# Altium schematic symbol library SchLib_ADH.SchLib: 241 symbols (part 3 of 9)
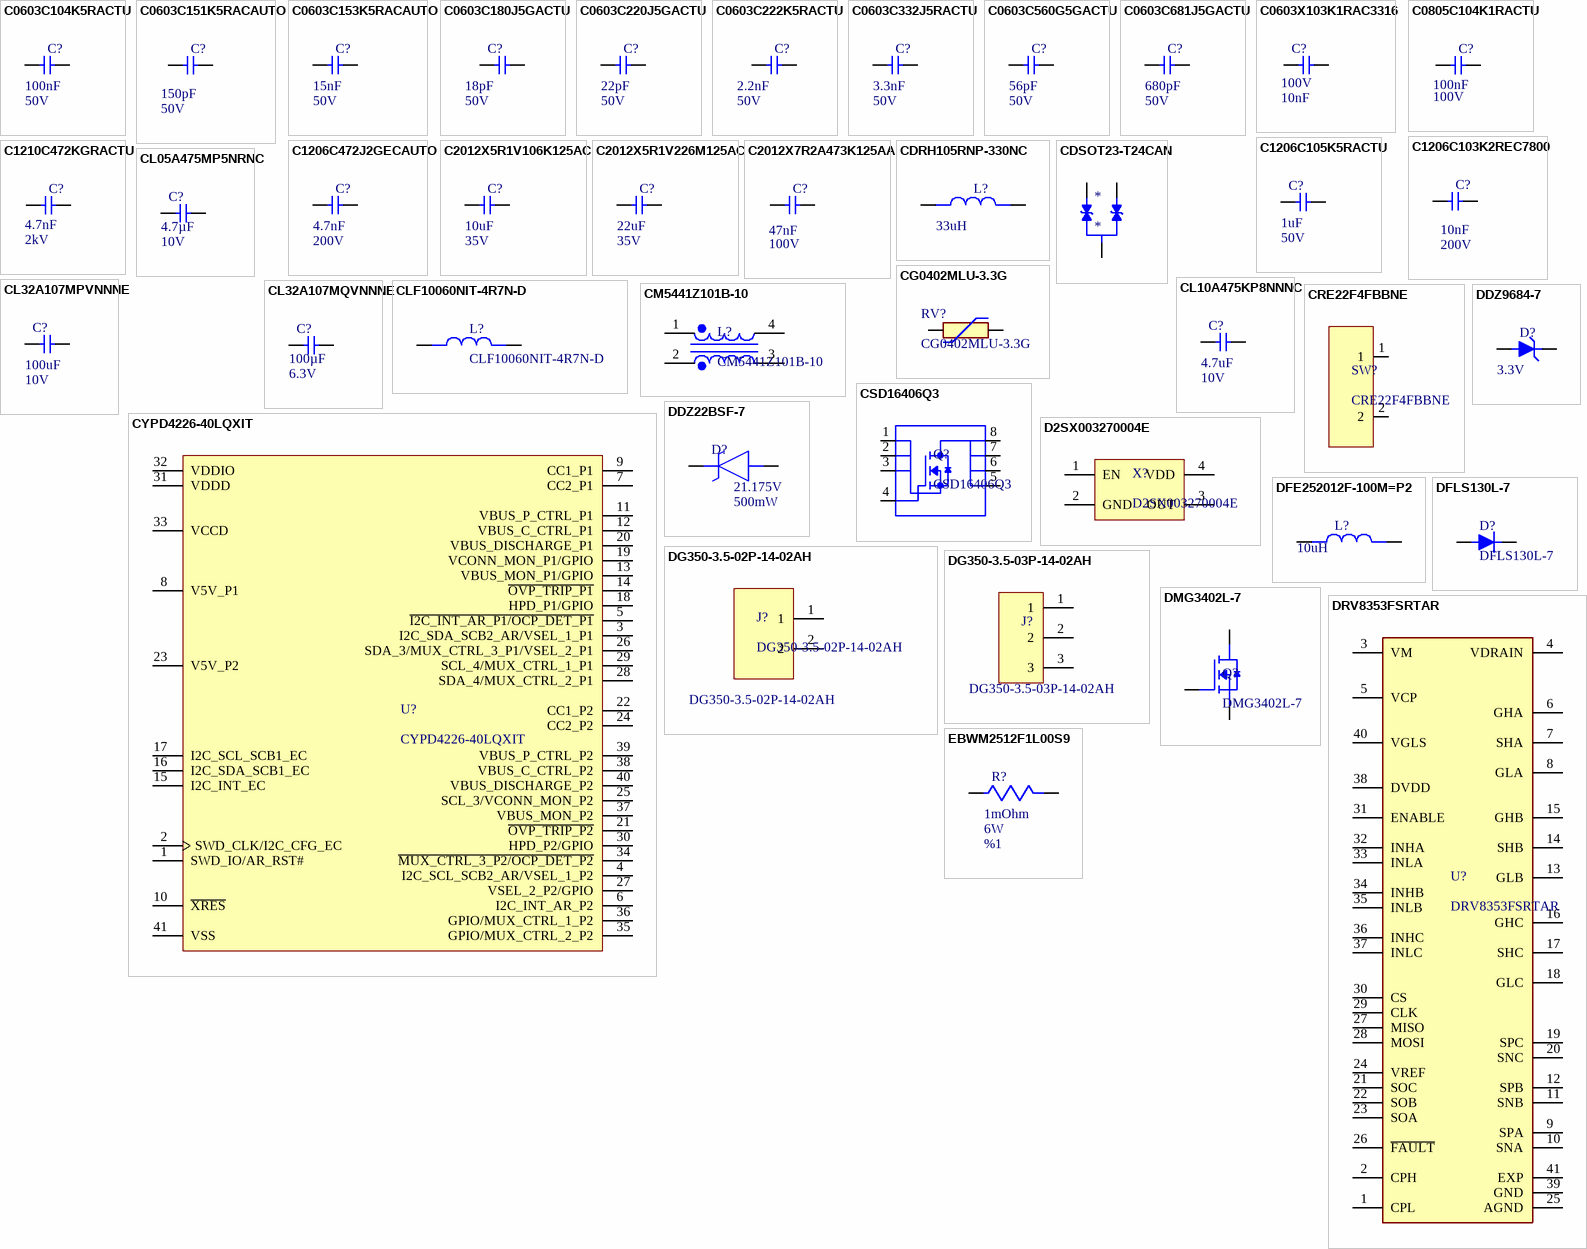
[diagram p9: symbols C0603C104K5RACTU to EBWM2512F1L00S9]

## C1210C472KGRACTU
designator C?  value 4.7nF  Rated DC Voltage (URdc): 2kV  (hidden comment: C1210C472KGRACTU)
Ceramic Capacitor, Multilayer, Ceramic, 2000V, 10% +Tol, 10% -Tol, X7R, 15% TC, 0.0047uF, Surface Mount, 1210; Manufacturer: KEMET; Multilayer: Yes; Reference Standard: AEC-Q200; Supplier 1: Digikey; Manufacturer Part Number: C1210C472KGRACTU; RoHS: Yes; Category: Ceramic Capacitors; Stock 1: 25448; Pricing 1: 1=1.07, 10=0.801, 50=0.7306, 100=0.5985, 500=0.47766, 1000=0.42147 (USD); Mounting Technology: Surface Mount; Pins: 2; Dielectric Material: Ceramic; Package Shape: Rectangular; Case/Package: 1210; Terminal Finish: Nickel; Min Operating Temperature: -55°C; Max Operating Temperature: 125°C; JESD-609 Code: e3; Capacitor Type: Ceramic; Tolerance  (fill in as +-): 10%; Package Style: SMTMeter; Packaging: Tape and Reel; Tolerance (fill in as +-): 10%; Temperature Characteristics Code: X7R; Termination: Wraparound; Length: 3.2mm; Width: 2.5mm; Height: 2.1mm; Reach SVHC Compliant: Yes; RoHS Compliant: Yes; ComponentLink1URL: https://datasheet.ciiva.com:443/pdfs/VipMasterIC/IC/KEME/KEME-S-A0005723686/KEME-S-A0005723686-1.pdf?src-supplier=IHS+Markit; ComponentLink1Description: https://datasheet.ciiva.com:443/pdfs/VipMasterIC/IC/KEME/KEME-S-A0005723686/KEME-S-A0005723686-1.pdf?src-supplier=IHS+Markit; ComponentLink2URL: http://www.farnell.com/datasheets/2746122.pdf?src-supplier=Farnell; ComponentLink2Description: http://www.farnell.com/datasheets/2746122.pdf?src-supplier=Farnell; ComponentLink3URL: http://www.mouser.com/ds/2/212/KEM_C1010_X7R_HV_SMD-1102742.pdf?src-supplier=Mouser; ComponentLink3Description: http://www.mouser.com/ds/2/212/KEM_C1010_X7R_HV_SMD-1102742.pdf?src-supplier=Mouser; ComponentLink4URL: https://datasheet.octopart.com/C1210C472KGRACTU-Kemet-datasheet-65933444.pdf?src-supplier=Element14; ComponentLink4Description: https://datasheet.octopart.com/C1210C472KGRACTU-Kemet-datasheet-65933444.pdf?src-supplier=Element14; ComponentLink5URL: https://api.kemet.com/component-edge/download/datasheet/C1210C472KGRACTU.pdf?src-supplier=Digikey; ComponentLink5Description: https://api.kemet.com/component-edge/download/datasheet/C1210C472KGRACTU.pdf?src-supplier=Digikey; ComponentLink6URL: http://www.farnell.com/datasheets/2746122.pdf?src-supplier=Newark; ComponentLink6Description: http://www.farnell.com/datasheets/2746122.pdf?src-supplier=Newark; ComponentLink7URL: https://datasheet.octopart.com/C1210C472KGRACTU-KEMET-datasheet-103257388.pdf?src-supplier=Newark; ComponentLink7Description: https://datasheet.octopart.com/C1210C472KGRACTU-KEMET-datasheet-103257388.pdf?src-supplier=Newark; ComponentLink8URL: http://capacitoredge.kemet.com/capedge2/DataSheet?pn=C1210C472KGRACTU&src-supplier=Avnet; ComponentLink8Description: http://capacitoredge.kemet.com/capedge2/DataSheet?pn=C1210C472KGRACTU&src-supplier=Avnet; ComponentLink9URL: http://components.arrow.com/part/dataview/48187685S8617565N7429?src-supplier=Arrow+Electronics; ComponentLink9Description: http://components.arrow.com/part/dataview/48187685S8617565N7429?src-supplier=Arrow+Electronics; ComponentLink10URL: https://datasheet.octopart.com/C1210C472KGRACTU-KEMET-datasheet-68331754.pdf?src-supplier=TME; ComponentLink10Description: https://datasheet.octopart.com/C1210C472KGRACTU-KEMET-datasheet-68331754.pdf?src-supplier=TME; Supplier Part Number 1: 399-C1210C472KGRAC7800CT-ND
footprint CAPC3225X270N
pins: 1, 2

## C2012X5R1V106K125AC
designator C?  value 10uF  Voltage Rating: 35V  (hidden comment: C2012X5R1V106K125AC)
Cap Ceramic 10uF 35V X5R 10% SMD 0805 85°C Blister Plastic T/R; Manufacturer: TDK; Supplier: Digi-Key; Supplier Part Number: 445-14418-1-ND; Manufacturer Part Number: C2012X5R1V106K125AC; RoHS: Yes; Category: Ceramic Capacitors; Stock: 387097; Pricing: 1=0,63, 10=0,42, 50=0,3342, 100=0,276, 500=0,2156, 1000=0,18326 (USD); Mounting Technology: Surface Mount; Case/Package: 0805; Case Code (Metric): 2012; Case Code (Imperial): 0805; Weight: 0.000194oz; Dielectric Material: Ceramic; Min Operating Temperature: -55°C; Max Operating Temperature: 85°C; Package Quantity: 2000; Packaging: Tape and Reel; Tolerance: 10%; Dielectric: X5R; Termination: SMD/SMT; Voltage Rating (DC): 35V; Series: C; Length: 2mm; Width: 1.25mm; Height: 1.25mm; Reach SVHC Compliant: No; Lead Free: Lead Free; RoHS Compliant: Yes; ComponentLink1URL: https://datasheet.ciiva.com/14886/tdkmlcccaprange-14886603.pdf?src-supplier=Digi-Key; ComponentLink1Description: https://datasheet.ciiva.com/14886/tdkmlcccaprange-14886603.pdf?src-supplier=Digi-Key; ComponentLink2URL: https://datasheet.ciiva.com/14886/tdkmlcccaprange-14886602.pdf?src-supplier=Digi-Key; ComponentLink2Description: https://datasheet.ciiva.com/14886/tdkmlcccaprange-14886602.pdf?src-supplier=Digi-Key; ComponentLink3URL: https://datasheet.ciiva.com/14886/tdkmlcccaprange-14886604.pdf?src-supplier=Digi-Key; ComponentLink3Description: https://datasheet.ciiva.com/14886/tdkmlcccaprange-14886604.pdf?src-supplier=Digi-Key
footprint CAPC2012X145N
pins: 1, 2 12

## C2012X5R1V226M125AC
designator C?  value 22uF  Voltage Rating: 35V  (hidden comment: C2012X5R1V226M125AC)
Multilayer Ceramic Capacitor, 22 uF, 35 V, ± 20%, X5R, 0805 [2012 Metric]; Manufacturer: TDK; Material: 4241ConductorMaterial; Supplier: Digikey; Supplier Part Number: 445-14428-1-ND; Manufacturer Part Number: C2012X5R1V226M125AC; RoHS: Yes; Category: Ceramic Capacitors; Stock: 157197; Pricing: 1=0,6, 10=0,402, 50=0,3198, 100=0,2641, 500=0,2063, 1000=0,17536 (USD); Mounting Technology: Surface Mount; Case/Package: 0805; Case Code (Metric): 2012; Case Code (Imperial): 0805; Weight: 0.000194oz; Dielectric Material: Ceramic; Min Operating Temperature: -55°C; Max Operating Temperature: 85°C; Package Quantity: 1; Packaging: Tape and Reel; Tolerance: 20%; Dielectric: X5R; Termination: SMD/SMT; Voltage Rating (DC): 35V; Series: C; Length: 0.079inch; Width: 0.049inch; Height: 1.25mm; Thickness: 0.057inch; Reach SVHC Compliant: No; Lead Free: Lead Free; RoHS Compliant: Yes; ComponentLink1URL: https://datasheet.ciiva.com/14893/tdkmlcccaprange-14893110.pdf?src-supplier=Digikey; ComponentLink1Description: https://datasheet.ciiva.com/14893/tdkmlcccaprange-14893110.pdf?src-supplier=Digikey; ComponentLink2URL: https://datasheet.ciiva.com/14893/tdkmlcccaprange-14893109.pdf?src-supplier=Digikey; ComponentLink2Description: https://datasheet.ciiva.com/14893/tdkmlcccaprange-14893109.pdf?src-supplier=Digikey; ComponentLink3URL: https://datasheet.ciiva.com/14893/tdkmlcccaprange-14893111.pdf?src-supplier=Digikey; ComponentLink3Description: https://datasheet.ciiva.com/14893/tdkmlcccaprange-14893111.pdf?src-supplier=Digikey
footprint CAPC2012X145N
pins: 1, 2 12

## C2012X7R2A473K125AA
designator C?  value 47nF  Voltage Rating: 100V  (hidden comment: C2012X7R2A473K125AA)
Cap Ceramic 0.047uF 100V X7R 10% Pad SMD 0805 125°C T/R; Manufacturer: TDK; Material: 4241ConductorMaterial; Supplier: Digikey; Supplier Part Number: 445-2276-1-ND; Manufacturer Part Number: C2012X7R2A473K125AA; RoHS: Yes; Category: Ceramic Capacitors; Stock: 30590; Pricing: 1=0,17, 10=0,11, 50=0,0696, 100=0,0556, 500=0,04016, 1000=0,03554 (USD); Mounting Technology: Surface Mount; Case/Package: 0805; Pins: 2; Case Code (Metric): 2012; Case Code (Imperial): 0805; Weight: 0.000194oz; Min Operating Temperature: -55°C; Max Operating Temperature: 125°C; Packaging: Tape and Reel; Tolerance: 10%; Package Quantity: 2000; Voltage Rating (DC): 100V; Dielectric: X7R; Termination: SMD/SMT; Series: C; Length: 2mm; Width: 1.25mm; Height: 1.25mm; Depth: 1.25mm; Reach SVHC Compliant: No; Lead Free: Lead Free; RoHS Compliant: Yes; ComponentLink1URL: https://datasheet.ciiva.com/24219/c2012x7r2a473k125aa-265093-24219746.pdf?src-supplier=Mouser; ComponentLink1Description: https://datasheet.ciiva.com/24219/c2012x7r2a473k125aa-265093-24219746.pdf?src-supplier=Mouser; ComponentLink2URL: https://datasheet.ciiva.com/28602/1484596-28602268.pdf?src-supplier=Element14; ComponentLink2Description: https://datasheet.ciiva.com/28602/1484596-28602268.pdf?src-supplier=Element14
footprint CAPC2012X145N
pins: 1, 2 12

## CDRH105RNP-330NC
designator L?  value 33uH  (hidden comment: CDRH105RNP-330NC)
Ind Power Shielded Wirewound 33uH 30% 100KHz Ferrite 2.5A; Manufacturer: Sumida; Supplier: Digikey; Supplier Part Number: 308-1925-1-ND; Manufacturer Part Number: CDRH105RNP-330NC; RoHS: Yes; Category: Fixed Inductors; Stock: 10016; Pricing: 1=1,41, 10=1,194, 25=1,0852, 50=1,0202, 100=0,8466, 250=0,78144 (USD); ComponentLink1URL: http://www.mouser.com/ds/2/390/CDRH105R-465909.pdf?src-supplier=Mouser; ComponentLink1Description: http://www.mouser.com/ds/2/390/CDRH105R-465909.pdf?src-supplier=Mouser; ComponentLink2URL: http://products.sumida.com/products/pdf/CDRH105R.pdf?src-supplier=Digikey; ComponentLink2Description: http://products.sumida.com/products/pdf/CDRH105R.pdf?src-supplier=Digikey; ComponentLink3URL: http://www.sumida.com/products/pdf/CDRH105R.pdf?src-supplier=Future+Electronics; ComponentLink3Description: http://www.sumida.com/products/pdf/CDRH105R.pdf?src-supplier=Future+Electronics; ComponentLink4URL: http://www.sumida.com/products/pdf/CDRH105R.pdf?src-supplier=Avnet; ComponentLink4Description: http://www.sumida.com/products/pdf/CDRH105R.pdf?src-supplier=Avnet; ComponentLink5URL: https://datasheet.octopart.com/CDRH105RNP-330NC-Sumida-datasheet-32609297.pdf?src-supplier=LKR; ComponentLink5Description: https://datasheet.octopart.com/CDRH105RNP-330NC-Sumida-datasheet-32609297.pdf?src-supplier=LKR
footprint CDRH105RNP-330NC
pins: 1, 2

## CDSOT23-T24CAN
designator *
A 24V, CANbus protection, SOT-23 package, Diode Array | Bourns CDSOT23-T24CAN; Supplier: Digi-Key; Supplier Part Number: CDSOT23-T24CANCT-ND; Manufacturer: Bourns; Manufacturer Part Number: CDSOT23-T24CAN; RoHS: Yes; Category: TVS Diodes; Stock: 221837; Pricing: 1=0,36, 10=0,282, 100=0,1691, 500=0,15656, 1000=0,10645 (USD); ComponentLink1URL: http://www.alliedelec.com/images/products/datasheets/bm/BOURNS/70672808.pdf?src-supplier=Allied+Electronics; ComponentLink1Description: http://www.alliedelec.com/images/products/datasheets/bm/BOURNS/70672808.pdf?src-supplier=Allied+Electronics; ComponentLink2URL: http://www.farnell.com/datasheets/2034827.pdf?src-supplier=Farnell; ComponentLink2Description: http://www.farnell.com/datasheets/2034827.pdf?src-supplier=Farnell; ComponentLink3URL: http://www.mouser.com/ds/2/54/dsot23-t24can-769560.pdf?src-supplier=Mouser; ComponentLink3Description: http://www.mouser.com/ds/2/54/dsot23-t24can-769560.pdf?src-supplier=Mouser; ComponentLink4URL: http://datasheet.octopart.com/CDSOT23-T24CAN-Bourns-datasheet-57226985.pdf?src-supplier=Newark; ComponentLink4Description: http://datasheet.octopart.com/CDSOT23-T24CAN-Bourns-datasheet-57226985.pdf?src-supplier=Newark; ComponentLink5URL: https://datasheet.octopart.com/CDSOT23-T24CAN-Bourns-datasheet-57226985.pdf?src-supplier=Element14; ComponentLink5Description: https://datasheet.octopart.com/CDSOT23-T24CAN-Bourns-datasheet-57226985.pdf?src-supplier=Element14; ComponentLink6URL: http://www.farnell.com/datasheets/2034827.pdf?src-supplier=Element14; ComponentLink6Description: http://www.farnell.com/datasheets/2034827.pdf?src-supplier=Element14; ComponentLink7URL: http://www.farnell.com/datasheets/2034827.pdf?src-supplier=Newark; ComponentLink7Description: http://www.farnell.com/datasheets/2034827.pdf?src-supplier=Newark; ComponentLink8URL: http://datasheet.octopart.com/CDSOT23-T24CAN-Bourns-datasheet-57226985.pdf?src-supplier=Onlinecomponents.com; ComponentLink8Description: http://datasheet.octopart.com/CDSOT23-T24CAN-Bourns-datasheet-57226985.pdf?src-supplier=Onlinecomponents.com; ComponentLink9URL: https://www.bourns.com/docs/Product-Datasheets/CDSOT23-T24CAN.pdf?src-supplier=Digi-Key; ComponentLink9Description: https://www.bourns.com/docs/Product-Datasheets/CDSOT23-T24CAN.pdf?src-supplier=Digi-Key; ComponentLink10URL: http://www.bourns.com/docs/Product-Datasheets/cdsot23-t24can.pdf?src-supplier=Avnet; ComponentLink10Description: http://www.bourns.com/docs/Product-Datasheets/cdsot23-t24can.pdf?src-supplier=Avnet; ComponentLink11URL: https://datasheet.octopart.com/CDSOT23-T24CAN-Bourns-datasheet-154729645.pdf?src-supplier=Electro+Sonic; ComponentLink11Description: https://datasheet.octopart.com/CDSOT23-T24CAN-Bourns-datasheet-154729645.pdf?src-supplier=Electro+Sonic
footprint CDSOT23
pins: 1, 2, 3

## CG0402MLU-3.3G
designator RV?
Varistor 1 Circuit Surface Mount, MLCV 0402 (1005 Metric); Manufacturer_Name: Bourns; Datasheet Link: https://www.bourns.com/docs/Product-Datasheets/MLU.pdf; Height: 0.41mm; Manufacturer_Part_Number: CG0402MLU-3.3G; Mouser Part Number: 652-CG0402MLU-3.3G; Mouser Price/Stock: https://www.mouser.co.uk/ProductDetail/Bourns/CG0402MLU-3.3G?qs=m8myXnDJXpWVM8EQWErxtQ%3D%3D; Arrow Part Number: CG0402MLU-3.3G; Arrow Price/Stock: https://www.arrow.com/en/products/cg0402mlu-3.3g/bourns?utm_currency=USD&region=nac
footprint VARC1005X41N
pins: 1, 2

## CL05A475MP5NRNC
designator C?  value 4.7µF  Voltage Rating: 10V  (hidden comment: CL05A475MP5NRNC)
Ceramic Capacitor, Multilayer, Ceramic, 10V, 20% +Tol, 20% -Tol, X5R, +-15% TC, 4.7uF, Surface Mount, 0402 inch; Manufacturer: Samsung Electro-Mechanics; Supplier: Avnet; Supplier Part Number: CL05A475MP5NRNC; Manufacturer Part Number: CL05A475MP5NRNC; RoHS: Compliant; Category: Ceramic Capacitors; Stock: 40000; Pricing: 10000=0,00671, 20000=0,00663, 40000=0,0066, 80000=0,00656, 160000=0,00653 (USD); Case/Package: 0402; Case Code (Imperial): 0402; Case Code (Metric): 1005; China RoHS: Compliant; Dielectric: X5R; Dielectric Material: Ceramic; Height: 500µm; Lead Free: Lead Free; Length: 1mm; Lifecycle Status: Production; Material: Ceramic; Max Operating Temperature: 85°C; Min Operating Temperature: -55°C; Mounting Technology: Surface Mount; Number of Terminals: 2; REACH SVHC: Yes; Schedule B: 8532240020, 8532240020|8532240020|8532240020|8532240020|8532240020|8532240020|8532240020|8532240020|8532240020|8532240020|8532240020|8532240020|8532240020|8532240020|8532240020|8532240020|8532240020|8532240020|8532240020|8532240020|8532240020|8532240020, 8532240020|8532240020|8532240020|8532240020|8532240020|8532240020|8532240020|8532240020|8532240020|8532240020|8532240020|8532240020|8532240020|8532240020|8532240020|8532240020|8532240020|8532240020|8532240020|8532240020|8532240020|8532240020|8532240020, 8532240020|8532240020|8532240020|8532240020|8532240020|8532240020|8532240020|8532240020|8532240020|8532240020|8532240020|8532240020|8532240020|8532240020|8532240020|8532240020|8532240020|8532240020|8532240020|8532240020|8532240020|8532240020|8532240020|85; Thickness: 558.8µm; Tolerance: 20%; Voltage Rating (DC): 10V; Width: 500µm; ComponentLink1URL: https://datasheet.octopart.com:443/CL05A475MP5NRNC-Samsung-Electro-Mechanics-datasheet-181551186.pdf?src-supplier=Newark; ComponentLink1Description: https://datasheet.octopart.com:443/CL05A475MP5NRNC-Samsung-Electro-Mechanics-datasheet-181551186.pdf?src-supplier=Newark; ComponentLink2URL: https://datasheet.octopart.com:443/CL05A475MP5NRNC-Samsung-Electro-Mechanics-datasheet-136482298.pdf?src-supplier=Newark; ComponentLink2Description: https://datasheet.octopart.com:443/CL05A475MP5NRNC-Samsung-Electro-Mechanics-datasheet-136482298.pdf?src-supplier=Newark; ComponentLink3URL: https://datasheet.octopart.com:443/CL05A475MP5NRNC-Samsung-Electro-Mechanics-datasheet-136031736.pdf?src-supplier=Future+Electronics; ComponentLink3Description: https://datasheet.octopart.com:443/CL05A475MP5NRNC-Samsung-Electro-Mechanics-datasheet-136031736.pdf?src-supplier=Future+Electronics; ComponentLink4URL: https://datasheet.octopart.com:443/CL05A475MP5NRNC-Samsung-Electro-Mechanics-datasheet-110226226.pdf?src-supplier=Future+Electronics; ComponentLink4Description: https://datasheet.octopart.com:443/CL05A475MP5NRNC-Samsung-Electro-Mechanics-datasheet-110226226.pdf?src-supplier=Future+Electronics; ComponentLink5URL: https://datasheet.octopart.com:443/CL05A475MP5NRNC-Samsung-Electro-Mechanics-datasheet-87580058.pdf?src-supplier=Future+Electronics; ComponentLink5Description: https://datasheet.octopart.com:443/CL05A475MP5NRNC-Samsung-Electro-Mechanics-datasheet-87580058.pdf?src-supplier=Future+Electronics; ComponentLink6URL: https://datasheet.octopart.com:443/CL05A475MP5NRNC-Samsung-Electro-Mechanics-datasheet-81461611.pdf?src-supplier=Future+Electronics; ComponentLink6Description: https://datasheet.octopart.com:443/CL05A475MP5NRNC-Samsung-Electro-Mechanics-datasheet-81461611.pdf?src-supplier=Future+Electronics; ComponentLink7URL: https://datasheet.octopart.com:443/CL05A475MP5NRNC-Samsung-datasheet-48647200.pdf?src-supplier=Future+Electronics; ComponentLink7Description: https://datasheet.octopart.com:443/CL05A475MP5NRNC-Samsung-datasheet-48647200.pdf?src-supplier=Future+Electronics; ComponentLink8URL: https://datasheet.octopart.com:443/CL05A475MP5NRNC-Samsung-datasheet-34153549.pdf?src-supplier=Future+Electronics; ComponentLink8Description: https://datasheet.octopart.com:443/CL05A475MP5NRNC-Samsung-datasheet-34153549.pdf?src-supplier=Future+Electronics; ComponentLink9URL: https://datasheet.octopart.com:443/CL05A475MP5NRNC-Samsung-datasheet-26589015.pdf?src-supplier=Future+Electronics; ComponentLink9Description: https://datasheet.octopart.com:443/CL05A475MP5NRNC-Samsung-datasheet-26589015.pdf?src-supplier=Future+Electronics; ComponentLink10URL: https://datasheet.octopart.com:443/CL05A475MP5NRNC-Samsung-datasheet-8324245.pdf?src-supplier=Future+Electronics; ComponentLink10Description: https://datasheet.octopart.com:443/CL05A475MP5NRNC-Samsung-datasheet-8324245.pdf?src-supplier=Future+Electronics; ComponentLink11URL: https://datasheet.octopart.com:443/CL05A475MP5NRNC-Samsung-Electro-Mechanics-datasheet-149136695.pdf?src-supplier=Future+Electronics; ComponentLink11Description: https://datasheet.octopart.com:443/CL05A475MP5NRNC-Samsung-Electro-Mechanics-datasheet-149136695.pdf?src-supplier=Future+Electronics; ComponentLink12URL: https://datasheet.octopart.com:443/CL05A475MP5NRNC-Samsung-datasheet-8326407.pdf?src-supplier=TME; ComponentLink12Description: https://datasheet.octopart.com:443/CL05A475MP5NRNC-Samsung-datasheet-8326407.pdf?src-supplier=TME
footprint CAPC1005X55N
pins: 1, 2 12

## CL10A475KP8NNNC
designator C?  value 4.7uF  Voltage Rating: 10V  (hidden comment: CL10A475KP8NNNC)
Multilayer Ceramic Capacitor, 4.7 uF, 10 V, ± 10%, X5R, 0603 [1608 Metric]; Manufacturer: Samsung; Material: 4241ConductorMaterial; Supplier: Digikey; Supplier Part Number: 1276-1044-1-ND; Manufacturer Part Number: CL10A475KP8NNNC; RoHS: Yes; Category: Ceramic Capacitors; Stock: 8034621; Pricing: 1=0,1, 10=0,041, 50=0,0234, 100=0,0182, 500=0,01368, 1000=0,01075 (USD); Mounting Technology: Surface Mount; Case/Package: 0603; Case Code (Metric): 1608; Case Code (Imperial): 0603; Min Operating Temperature: -55°C; Max Operating Temperature: 85°C; Tolerance: 10%; Package Quantity: 1; Packaging: Tape and Reel; Dielectric: X5R; Series: CL; Construction: Flat; Voltage Rating (DC): 10V; Length: 1.6mm; Width: 0.031inch; Height: 0.8mm; Thickness: 0.035inch; Depth: 0.8mm; Radiation Hardening: No; RoHS Compliant: Yes; ComponentLink1URL: https://datasheet.ciiva.com/25797/cl10a475kp8nnnc-25797520.pdf?src-supplier=Digikey; ComponentLink1Description: https://datasheet.ciiva.com/25797/cl10a475kp8nnnc-25797520.pdf?src-supplier=Digikey
footprint CAPC1608X94N
pins: 1, 2 12

## CL32A107MPVNNNE
designator C?  value 100uF  Voltage Rating: 10V  (hidden comment: CL32A107MPVNNNE)
Multilayer Ceramic Capacitor, 100 uF, 10 V, ± 20%, X5R, 1210 [3225 Metric]; Manufacturer: Samsung; Supplier: Digikey; Supplier Part Number: 1276-3364-1-ND; Manufacturer Part Number: CL32A107MPVNNNE; RoHS: Yes; Category: Ceramic Capacitors; Stock: 171335; Pricing: 1=1,05, 10=0,757, 50=0,6618, 100=0,5393, 500=0,44124 (USD); Mounting Technology: Surface Mount; Case/Package: 1210; Case Code (Metric): 3225; Case Code (Imperial): 1210; Material: Ceramic; Min Operating Temperature: -55°C; Max Operating Temperature: 85°C; Tolerance: 20%; Packaging: Cut Tape; Dielectric: X5R; Voltage: 10V; Voltage Rating (DC): 10V; Series: CL; Construction: Flat; Length: 3.2mm; Width: 0.098inch; Height: 2.5mm; Thickness: 0.11inch; Depth: 2.5mm; Radiation Hardening: No; Lead Free: Lead Free; RoHS Compliant: Yes; ComponentLink1URL: https://datasheet.ciiva.com/26947/getdatasheetpartid-468228-26947022.pdf?src-supplier=Verical; ComponentLink1Description: https://datasheet.ciiva.com/26947/getdatasheetpartid-468228-26947022.pdf?src-supplier=Verical
footprint CAPC3225X140N
pins: 1, 2 12

## CL32A107MQVNNNE
designator C?  value 100µF  Voltage: 6.3V  (hidden comment: CL32A107MQVNNNE)
6.3V 100uF X5R ±20% 1210 Multilayer Ceramic Capacitors MLCC - SMD/SMT ROHS; Manufacturer: Samsung Electro-Mechanics; Supplier: Avnet; Supplier Part Number: 82AC9521; Manufacturer Part Number: CL32A107MQVNNNE; RoHS: Compliant; Category: Ceramic Capacitors; Stock: 76691; Pricing: 1=0,707, 10=0,427, 25=0,371, 50=0,315, 100=0,28 (USD); Case/Package: 1210; Case Code (Imperial): 1210; Case Code (Metric): 3225; China RoHS: Compliant; Contact Plating: Tin; Depth: 2.5mm; Dielectric: X5R; Dielectric Material: Ceramic; Height: 2.8mm; Lead Free: Lead Free; Length: 3.2mm; Lifecycle Status: Production; Material: Ceramic; Max Operating Temperature: 85°C; Min Operating Temperature: -55°C; Mounting Technology: Surface Mount; Number of Terminals: 2; Radiation Hardening: No; REACH SVHC: Yes; Schedule B: 8532240020, 8532240020|8532240020|8532240020|8532240020|8532240020|8532240020|8532240020|8532240020|8532240020|8532240020|8532240020|8532240020|8532240020|8532240020|8532240020|8532240020|8532240020|8532240020|8532240020|8532240020|8532240020|8532240020|8532240020|85; Thickness: 2.794mm; Tolerance: 20%; Voltage Rating: 6.3V; Voltage Rating (DC): 6.3V; Width: 2.5mm; ComponentLink1URL: https://datasheet.octopart.com:443/CL32A107MQVNNNE-Samsung-Electro-Mechanics-datasheet-181552186.pdf?src-supplier=Farnell; ComponentLink1Description: https://datasheet.octopart.com:443/CL32A107MQVNNNE-Samsung-Electro-Mechanics-datasheet-181552186.pdf?src-supplier=Farnell; ComponentLink2URL: https://datasheet.octopart.com:443/CL32A107MQVNNNE-Samsung-Electro-Mechanics-datasheet-136031867.pdf?src-supplier=Samsung+SCT; ComponentLink2Description: https://datasheet.octopart.com:443/CL32A107MQVNNNE-Samsung-Electro-Mechanics-datasheet-136031867.pdf?src-supplier=Samsung+SCT; ComponentLink3URL: https://datasheet.octopart.com:443/CL32A107MQVNNNE-Samsung-Electro-Mechanics-datasheet-11731531.pdf?src-supplier=Future+Electronics; ComponentLink3Description: https://datasheet.octopart.com:443/CL32A107MQVNNNE-Samsung-Electro-Mechanics-datasheet-11731531.pdf?src-supplier=Future+Electronics; ComponentLink4URL: https://datasheet.octopart.com:443/CL32A107MQVNNNE-Samsung-Electro-Mechanics-datasheet-149048019.pdf?src-supplier=Future+Electronics; ComponentLink4Description: https://datasheet.octopart.com:443/CL32A107MQVNNNE-Samsung-Electro-Mechanics-datasheet-149048019.pdf?src-supplier=Future+Electronics; ComponentLink5URL: https://datasheet.octopart.com:443/CL32A107MQVNNNE-Samsung-Electro-Mechanics-datasheet-110334290.pdf?src-supplier=Future+Electronics; ComponentLink5Description: https://datasheet.octopart.com:443/CL32A107MQVNNNE-Samsung-Electro-Mechanics-datasheet-110334290.pdf?src-supplier=Future+Electronics; ComponentLink6URL: https://datasheet.octopart.com:443/CL32A107MQVNNNE-Samsung-Electro-Mechanics-datasheet-81462611.pdf?src-supplier=Future+Electronics; ComponentLink6Description: https://datasheet.octopart.com:443/CL32A107MQVNNNE-Samsung-Electro-Mechanics-datasheet-81462611.pdf?src-supplier=Future+Electronics; ComponentLink7URL: https://datasheet.octopart.com:443/CL32A107MQVNNNE-Samsung-datasheet-48757337.pdf?src-supplier=Future+Electronics; ComponentLink7Description: https://datasheet.octopart.com:443/CL32A107MQVNNNE-Samsung-datasheet-48757337.pdf?src-supplier=Future+Electronics; ComponentLink8URL: https://datasheet.octopart.com:443/CL32A107MQVNNNE-Samsung-datasheet-34175070.pdf?src-supplier=Future+Electronics; ComponentLink8Description: https://datasheet.octopart.com:443/CL32A107MQVNNNE-Samsung-datasheet-34175070.pdf?src-supplier=Future+Electronics; ComponentLink9URL: https://datasheet.octopart.com/CL32A107MQVNNNE-Samsung-Electro-Mechanics-datasheet-8324245.pdf; ComponentLink9Description: https://datasheet.octopart.com/CL32A107MQVNNNE-Samsung-Electro-Mechanics-datasheet-8324245.pdf; ComponentLink10URL: https://datasheet.octopart.com/CL32A107MQVNNNE-Samsung-Electro-Mechanics-datasheet-97040617.pdf; ComponentLink10Description: https://datasheet.octopart.com/CL32A107MQVNNNE-Samsung-Electro-Mechanics-datasheet-97040617.pdf; ComponentLink11URL: https://datasheet.octopart.com/General-Multilayer-Ceramic-Capacitors-Samsung-datasheet-family-111.pdf; ComponentLink11Description: https://datasheet.octopart.com/General-Multilayer-Ceramic-Capacitors-Samsung-datasheet-family-111.pdf; ComponentLink12URL: https://datasheet.octopart.com:443/CL32A107MQVNNNE-Samsung-datasheet-151956601.pdf?src-supplier=SOS+electronic; ComponentLink12Description: https://datasheet.octopart.com:443/CL32A107MQVNNNE-Samsung-datasheet-151956601.pdf?src-supplier=SOS+electronic; ComponentLink13URL: https://datasheet.octopart.com:443/CL32A107MQVNNNE-Samsung-datasheet-151956603.pdf?src-supplier=SOS+electronic; ComponentLink13Description: https://datasheet.octopart.com:443/CL32A107MQVNNNE-Samsung-datasheet-151956603.pdf?src-supplier=SOS+electronic; ComponentLink14URL: https://datasheet.octopart.com:443/CL32A107MQVNNNE-Samsung-datasheet-8326407.pdf?src-supplier=TME; ComponentLink14Description: https://datasheet.octopart.com:443/CL32A107MQVNNNE-Samsung-datasheet-8326407.pdf?src-supplier=TME; ComponentLink15URL: http://sigma.octopart.com:80/rohs_certificate/General-Multilayer-Ceramic-Capacitors-Samsung-family-110.pdf?src-supplier=Compliance+Statements; ComponentLink15Description: http://sigma.octopart.com:80/rohs_certificate/General-Multilayer-Ceramic-Capacitors-Samsung-family-110.pdf?src-supplier=Compliance+Statements; ComponentLink16URL: http://sigma.octopart.com:80/rohs_statement/General-Multilayer-Ceramic-Capacitors-Samsung-family-132.pdf?src-supplier=Compliance+Statements; ComponentLink16Description: http://sigma.octopart.com:80/rohs_statement/General-Multilayer-Ceramic-Capacitors-Samsung-family-132.pdf?src-supplier=Compliance+Statements; ComponentLink17URL: http://sigma.octopart.com:80/reach_statement/General-Multilayer-Ceramic-Capacitors-Samsung-family-133.pdf?src-supplier=Compliance+Statements; ComponentLink17Description: http://sigma.octopart.com:80/reach_statement/General-Multilayer-Ceramic-Capacitors-Samsung-family-133.pdf?src-supplier=Compliance+Statements
footprint CAPC3225X140N
pins: 1, 2 12

## CLF10060NIT-4R7N-D
designator L?
Inductor Power Shielded Wirewound 4.7uH 30% 100KHz Ferrite 7A 0.0143Ohm DCR Automotive T/R; Manufacturer: TDK; Supplier: Digi-Key; Supplier Part Number: 445-174714-1-ND; Manufacturer Part Number: CLF10060NIT-4R7N-D; RoHS: Yes; Category: Fixed Inductors; Stock: 4104; Pricing: 1=1,43, 10=1,323, 25=1,1024, 50=1,0364, 100=0,9261, 250=0,7938 (USD); ComponentLink1URL: https://datasheet.ciiva.com/53398/2159117-53398025.pdf?src-supplier=Element14; ComponentLink1Description: https://datasheet.ciiva.com/53398/2159117-53398025.pdf?src-supplier=Element14
footprint IND_CLF10060NIT-4R7N-D
pins: 1, 2

## CM5441Z101B-10
designator L?
Data Line Filter, 2 Function(s), 75A, 4 Pin(s); Manufacturer: Laird; DC Resistance-Max: 0.3mR; Channels: 2; Output Impedance: 100R; Supplier 1: Digikey; Manufacturer Part Number: CM5441Z101B-10; RoHS: Yes; Category: Common Mode Chokes; Stock 1: 3508; Pricing 1: 1=3.51, 10=2.932, 25=2.6768, 50=2.2944, 100=2.1033, 250=2.03956, 500=1.97582, 1000=1.84835, 2500=1.78461 (USD); Mounting Technology: Through Hole; Terminal Finish: Tin; Filter Type: DATA LINE FILTER; Current Rating: 75A; JESD-609 Code: e3; Length: 13.72mm; Width: 10.41mm; Height: 10.52mm; RoHS Compliant: Yes; Reach SVHC Compliant: Yes; ComponentLink1URL: https://datasheet.ciiva.com:443/pdfs/VipMasterIC/IC/LATE/LATE-S-A0008837650/LATE-S-A0008837650-1.pdf?src-supplier=IHS+Markit; ComponentLink1Description: https://datasheet.ciiva.com:443/pdfs/VipMasterIC/IC/LATE/LATE-S-A0008837650/LATE-S-A0008837650-1.pdf?src-supplier=IHS+Markit; ComponentLink2URL: https://datasheet.ciiva.com/8102/cm5441z101b-10-a-2-8102308.pdf?src-supplier=Avnet; ComponentLink2Description: https://datasheet.ciiva.com/8102/cm5441z101b-10-a-2-8102308.pdf?src-supplier=Avnet; ComponentLink3URL: https://datasheet.ciiva.com/23648/1685862-23648564.pdf?src-supplier=Newark; ComponentLink3Description: https://datasheet.ciiva.com/23648/1685862-23648564.pdf?src-supplier=Newark; ComponentLink4URL: https://datasheet.ciiva.com/22628/1685862-22628071.pdf?src-supplier=Element14; ComponentLink4Description: https://datasheet.ciiva.com/22628/1685862-22628071.pdf?src-supplier=Element14; Supplier Part Number 1: 240-2489-ND
footprint FIL_CM5441Z101B-10
pins: 1, 2, 3, 4

## CRE22F4FBBNE
designator SW?
Rocker Switch SPST 20A (AC) 125 V Panel Mount, Snap-In; Manufacturer: ZF; Supplier: Digi-Key; Supplier Part Number: CH840-ND; Manufacturer Part Number: CRE22F4FBBNE; RoHS: No; Category: Rocker Switches; Stock: 82,756; Pricing: 1=1,95, 10=1,741, 25=1,6464, 50=1,5678, 100=1,4968, 250=1,4338, 500=1,33926, 1000=1,27624 (USD)
footprint WURTH_61300211121
pins: 1, 2

## CSD16406Q3
designator Q?
25-V, N channel NexFET™ power MOSFET, single SON 3 mm x 3 mm, 7.4 mOhm 8-VSON-CLIP -55 to 150; Manufacturer: Texas Instruments; Rise Time: 12.9ns; Continuous Drain Current (ID): 60A; Fall Time: 4.8ns; Turn-Off Delay Time: 8.5ns; Gate to Source Voltage (Vgs): 16V; Turn-On Delay Time: 7.3ns; Rds On Max: 5.3mR; Drain to Source Voltage (Vdss): 25V; Max Power Dissipation: 2.7W; Number of Elements: 1; Polarity: N-CHANNEL; Input Capacitance: 1.1nF; Nominal Vgs: 1.7V; Supplier: Digi-Key; Supplier Part Number: 296-24251-1-ND; Manufacturer Part Number: CSD16406Q3; RoHS: Yes; Category: MOSFETs; Stock: 11456; Pricing: 1=1,1, 10=0,899, 100=0,6991, 500=0,5926, 1000=0,48274 (USD); Mounting Technology: Surface Mount; Case/Package: SON; Pins: 8; Contact Plating: Tin,Matte; Min Operating Temperature: -55°C; Max Operating Temperature: 150°C; Packaging: Tape and Reel; Package Quantity: 2500; Power Dissipation: 2.7W; Series: NexFET™; Dual Supply Voltage: 25V; Drain to Source Breakdown Voltage: 25V; Termination: SMD/SMT; Threshold Voltage: 1.7V; Element Configuration: Single; Width: 3.3mm; Thickness: 1mm; RoHS Compliant: Yes; Reach SVHC Compliant: No; ComponentLink1URL: https://datasheet.ciiva.com/4438/slps202a-128073-4438442.pdf?src-supplier=Mouser; ComponentLink1Description: https://datasheet.ciiva.com/4438/slps202a-128073-4438442.pdf?src-supplier=Mouser; ComponentLink2URL: https://datasheet.ciiva.com/1255/csd16406q3-1255292.pdf?src-supplier=Newark; ComponentLink2Description: https://datasheet.ciiva.com/1255/csd16406q3-1255292.pdf?src-supplier=Newark; ComponentLink3URL: https://datasheet.ciiva.com/14192/slps202a-14192882.pdf?src-supplier=Avnet; ComponentLink3Description: https://datasheet.ciiva.com/14192/slps202a-14192882.pdf?src-supplier=Avnet; ComponentLink4URL: https://datasheet.ciiva.com/6387/csd16406q3-6387192.pdf?src-supplier=Digi-Key; ComponentLink4Description: https://datasheet.ciiva.com/6387/csd16406q3-6387192.pdf?src-supplier=Digi-Key; ComponentLink5URL: https://datasheet.ciiva.com/5832/483980-5832635.pdf?src-supplier=Farnell; ComponentLink5Description: https://datasheet.ciiva.com/5832/483980-5832635.pdf?src-supplier=Farnell; ComponentLink6URL: https://datasheet.ciiva.com/5832/483980-5832634.pdf?src-supplier=Farnell; ComponentLink6Description: https://datasheet.ciiva.com/5832/483980-5832634.pdf?src-supplier=Farnell; ComponentLink7URL: https://datasheet.ciiva.com/6387/csd16406q3-6387195.pdf?src-supplier=Digi-Key; ComponentLink7Description: https://datasheet.ciiva.com/6387/csd16406q3-6387195.pdf?src-supplier=Digi-Key; ComponentLink8URL: https://datasheet.ciiva.com/7643/1389665-7643292.pdf?src-supplier=Element14; ComponentLink8Description: https://datasheet.ciiva.com/7643/1389665-7643292.pdf?src-supplier=Element14; ComponentLink9URL: https://datasheet.ciiva.com/6387/csd16406q3-6387198.pdf?src-supplier=Digi-Key; ComponentLink9Description: https://datasheet.ciiva.com/6387/csd16406q3-6387198.pdf?src-supplier=Digi-Key; ComponentLink10URL: https://datasheet.ciiva.com/14423/slps202a-14423477.pdf?src-supplier=Avnet; ComponentLink10Description: https://datasheet.ciiva.com/14423/slps202a-14423477.pdf?src-supplier=Avnet
footprint TRANS_CSD16406Q3
pins: 1 S_1, 2 S_2, 3 S_3, 4 G, 5 D_5, 6 D_6, 7 D_7, 8 D_8

## CYPD4226-40LQXIT
designator U?
Usb Type-C Ctrl, 1Mbps, -40 To 85Deg C Rohs Compliant: Yes; Manufacturer: Infineon; Supplier: Digikey; Supplier Part Number: 448-CYPD4226-40LQXITCT-ND; Manufacturer Part Number: CYPD4226-40LQXIT; RoHS: Yes; Stock: 8933; Pricing: 1=2,27, 10=2,041, 25=1,9296, 100=1,6725, 250=1,58672, 500=1,51, 2500=1,51 (USD)
footprint QFN50P600X600X80-41N
pins: 1 SWD_IO/AR_RST#, 2 SWD_CLK/I2C_CFG_EC, 3 I2C_SDA_SCB2_AR/VSEL_1_P1, 4 I2C_SCL_SCB2_AR/VSEL_1_P2, 5 ~{I2C_INT_AR_P1/OCP_DET_P1}, 6 I2C_INT_AR_P2, 7 CC2_P1, 8 V5V_P1, 9 CC1_P1, 10 ~{XRES}, 11 VBUS_P_CTRL_P1, 12 VBUS_C_CTRL_P1, 13 VBUS_MON_P1/GPIO, 14 ~{OVP_TRIP_P1}, 15 I2C_INT_EC, 16 I2C_SDA_SCB1_EC, 17 I2C_SCL_SCB1_EC, 18 HPD_P1/GPIO, 19 VCONN_MON_P1/GPIO, 20 VBUS_DISCHARGE_P1, 21 ~{OVP_TRIP_P2}, 22 CC1_P2, 23 V5V_P2, 24 CC2_P2, 25 SCL_3/VCONN_MON_P2, 26 SDA_3/MUX_CTRL_3_P1/VSEL_2_P1, 27 VSEL_2_P2/GPIO, 28 SDA_4/MUX_CTRL_2_P1, 29 SCL_4/MUX_CTRL_1_P1, 30 HPD_P2/GPIO, 31 VDDD, 32 VDDIO, 33 VCCD, 34 ~{MUX_CTRL_3_P2/OCP_DET_P2}, 35 GPIO/MUX_CTRL_2_P2, 36 GPIO/MUX_CTRL_1_P2, 37 VBUS_MON_P2, 38 VBUS_C_CTRL_P2, 39 VBUS_P_CTRL_P2, 40 VBUS_DISCHARGE_P2, 41 VSS

## D2SX003270004E
designator X?
Osc 2520 32.768KHZ Cmos; Manufacturer: Hosonic Electronic; Supplier: Digikey; Supplier Part Number: 3186-D2SX003270004ECT-ND; Manufacturer Part Number: D2SX003270004E; RoHS: No; Category: Oscillators; Stock: 1746; Pricing: 1=1,48, 10=1,411, 50=1,3786, 100=1,1817, 500=1,14888, 1000=0,96834 (USD)
footprint D2SX003270004E
pins: 1 EN, 2 GND, 3 OUT, 4 VDD

## DDZ22BSF-7
designator D?  Max Power Dissipation: 500mW  Zener Voltage: 21.175V  (hidden comment: DDZ22BSF-7)
Diode Zener Single 21.175V 3% 500mW 2-Pin SOD-323F T/R; Manufacturer: Diodes; Tolerance: 2.53%; Impedance: 55R; Voltage Tolerance: 2.5%; Test Current: 5mA; Max Reverse Leakage Current: 70nA; Forward Voltage: 900mV; Supplier: Digikey; Supplier Part Number: 31-DDZ22BSF-7CT-ND; Manufacturer Part Number: DDZ22BSF-7; RoHS: Yes; Category: Zener Diodes; Stock: 1884; Pricing: 1=0,2, 10=0,14, 100=0,0681, 500=0,05682, 1000=0,03948 (USD); Mounting Technology: Surface Mount; Pins: 2; Min Operating Temperature: -65°C; Max Operating Temperature: 150°C; Package Quantity: 3000; Packaging: Tape and Reel; Zener Current: 70nA; Max Reverse Current: 70nA; Power Rating: 500mW; Series: -; Length: 2.5mm; Width: 1.25mm; Height: 0.75mm; Radiation Hardening: No; Reach SVHC Compliant: Yes; RoHS Compliant: Yes; ComponentLink1URL: https://datasheet.ciiva.com/25630/0900766b8115c2de-25630724.pdf?src-supplier=Rs; ComponentLink1Description: https://datasheet.ciiva.com/25630/0900766b8115c2de-25630724.pdf?src-supplier=Rs
footprint SODFL2512X75N
pins: 1 K, 2 A

## DDZ9684-7
designator D?  Voltage Rating: 3.3V  (hidden comment: DDZ9684-7)
Zener Diode Housing type: SOD-123 Package: SMD Power dissipation: 500 mW Zener voltage: 3.3 V; Manufacturer: Diodes; Supplier: Digi-Key; Supplier Part Number: DDZ9684-7DICT-ND; Manufacturer Part Number: DDZ9684-7; RoHS: Yes; Category: Zener Diodes; Stock: 300746; Pricing: 1=0,28, 10=0,191, 100=0,0933, 500=0,07784, 1000=0,05409 (USD); ComponentLink1URL: http://www.alliedelec.com/m/d/90d7dc6fca0866ab17f3b1504398ba90.pdf?src-supplier=Allied+Electronics; ComponentLink1Description: http://www.alliedelec.com/m/d/90d7dc6fca0866ab17f3b1504398ba90.pdf?src-supplier=Allied+Electronics; ComponentLink2URL: http://www.farnell.com/datasheets/1911852.pdf?src-supplier=Farnell; ComponentLink2Description: http://www.farnell.com/datasheets/1911852.pdf?src-supplier=Farnell; ComponentLink3URL: http://www.mouser.com/ds/2/115/ds30410-30695.pdf?src-supplier=Mouser; ComponentLink3Description: http://www.mouser.com/ds/2/115/ds30410-30695.pdf?src-supplier=Mouser; ComponentLink4URL: http://uk.rs-online.com/webdocs/1325/0900766b81325352.pdf?src-supplier=Rs; ComponentLink4Description: http://uk.rs-online.com/webdocs/1325/0900766b81325352.pdf?src-supplier=Rs; ComponentLink5URL: http://www.diodes.com/_files/datasheets/ds30410.pdf?src-supplier=Future+Electronics; ComponentLink5Description: http://www.diodes.com/_files/datasheets/ds30410.pdf?src-supplier=Future+Electronics; ComponentLink6URL: http://www.farnell.com/datasheets/1911852.pdf?src-supplier=Newark; ComponentLink6Description: http://www.farnell.com/datasheets/1911852.pdf?src-supplier=Newark; ComponentLink7URL: https://datasheet.octopart.com/DDZ9684-7-Diodes-Inc.-datasheet-8877152.pdf?src-supplier=Element14; ComponentLink7Description: https://datasheet.octopart.com/DDZ9684-7-Diodes-Inc.-datasheet-8877152.pdf?src-supplier=Element14; ComponentLink8URL: http://components.arrow.com/part/dataview/41508679S7830749N2867?src-supplier=Arrow+Electronics; ComponentLink8Description: http://components.arrow.com/part/dataview/41508679S7830749N2867?src-supplier=Arrow+Electronics; ComponentLink9URL: https://www.diodes.com/assets/Datasheets/ds30410.pdf?src-supplier=Digi-Key; ComponentLink9Description: https://www.diodes.com/assets/Datasheets/ds30410.pdf?src-supplier=Digi-Key; ComponentLink10URL: http://www.diodes.com//datasheets/ds30410.pdf?src-supplier=Avnet; ComponentLink10Description: http://www.diodes.com//datasheets/ds30410.pdf?src-supplier=Avnet; ComponentLink11URL: https://datasheet.octopart.com/DDZ9684-7-Diodes-Inc.-datasheet-142661475.pdf?src-supplier=TME; ComponentLink11Description: https://datasheet.octopart.com/DDZ9684-7-Diodes-Inc.-datasheet-142661475.pdf?src-supplier=TME
footprint SOD-123
pins: 1, 2

## DFE252012F-100M=P2
designator L?  value 10uH  (hidden comment: DFE252012F-100M=P2)
Inductor Power Chip Shielded Wirewound 10uH 20% 1MHz Metal 0.95A 0.48Ohm DCR 1008 T/R; Manufacturer: Murata; Supplier: Digikey; Supplier Part Number: 490-13050-1-ND; Manufacturer Part Number: DFE252012F-100M=P2; RoHS: Yes; Category: Fixed Inductors; Stock: 21793; Pricing: 1=0,32, 10=0,261, 25=0,2412, 50=0,221, 100=0,1948, 250=0,1888, 500=0,16872, 1000=0,13658 (USD); ComponentLink1URL: http://www.farnell.com/datasheets/2616795.pdf?src-supplier=Farnell; ComponentLink1Description: http://www.farnell.com/datasheets/2616795.pdf?src-supplier=Farnell; ComponentLink2URL: http://www.murata.com/~/media/webrenewal/products/inductor/chip/tokoproducts/wirewoundmetalalloychiptype/m_dfe252012f.ashx?src-supplier=Digikey; ComponentLink2Description: http://www.murata.com/~/media/webrenewal/products/inductor/chip/tokoproducts/wirewoundmetalalloychiptype/m_dfe252012f.ashx?src-supplier=Digikey; ComponentLink3URL: https://www.murata.com/~/media/webrenewal/products/inductor/chip/tokoproducts/wirewoundmetalalloychiptype/m_dfe252012f.ashx?src-supplier=Digikey; ComponentLink3Description: https://www.murata.com/~/media/webrenewal/products/inductor/chip/tokoproducts/wirewoundmetalalloychiptype/m_dfe252012f.ashx?src-supplier=Digikey; ComponentLink4URL: https://datasheet.octopart.com/DFE252012F-100M%3DP2-Murata-datasheet-130009180.pdf?src-supplier=Future+Electronics; ComponentLink4Description: https://datasheet.octopart.com/DFE252012F-100M%3DP2-Murata-datasheet-130009180.pdf?src-supplier=Future+Electronics
footprint INDC2520X120N
pins: 1, 2

## DFLS130L-7
designator D?
Rectifier Diode Schottky 30V 1A 2-Pin PowerDI 123 T/R / DIODE SCHOTTKY 30V 1A POWERDI123; Manufacturer: Diodes; Supplier: Digikey; Supplier Part Number: DFLS130LDICT-ND; Manufacturer Part Number: DFLS130L-7; RoHS: Yes; Category: Rectifier Diodes; Stock: 44540; Pricing: 1=0,44, 10=0,378, 100=0,2626, 500=0,20504, 1000=0,16665 (USD); Reverse Voltage: 30V; ComponentLink1URL: https://datasheet.ciiva.com/4715/ds30492-62169-4715664.pdf?src-supplier=Mouser; ComponentLink1Description: https://datasheet.ciiva.com/4715/ds30492-62169-4715664.pdf?src-supplier=Mouser; ComponentLink2URL: https://datasheet.ciiva.com/8301/ds30492-8301924.pdf?src-supplier=Avnet; ComponentLink2Description: https://datasheet.ciiva.com/8301/ds30492-8301924.pdf?src-supplier=Avnet; ComponentLink3URL: https://datasheet.ciiva.com/914/ds30492-914307.pdf?src-supplier=Digikey; ComponentLink3Description: https://datasheet.ciiva.com/914/ds30492-914307.pdf?src-supplier=Digikey; ComponentLink4URL: https://datasheet.ciiva.com/914/ds30492-914308.pdf?src-supplier=Digikey; ComponentLink4Description: https://datasheet.ciiva.com/914/ds30492-914308.pdf?src-supplier=Digikey; ComponentLink5URL: https://datasheet.ciiva.com/914/ds30492-914309.pdf?src-supplier=Digikey; ComponentLink5Description: https://datasheet.ciiva.com/914/ds30492-914309.pdf?src-supplier=Digikey
footprint DIO_DFLS130L-7
pins: 1, 2

## DG350-3.5-02P-14-02AH
designator J?
TERM.BLK.3.50MM 2P PCB TYPE GREEN; Manufacturer Part Number: DG350-3.5-02P-14-02AH
footprint SHDR2W80P0X350_1X2_700X650X840P
pins: 1, 2

## DG350-3.5-03P-14-02AH
designator J?
TERM.BLK.3.50MM 3P PCB TYPE GREEN; Manufacturer Part Number: DG350-3.5-03P-14-02AH
footprint DG3503503P1400AH
pins: 1, 2, 3

## DMG3402L-7
designator Q?
MOSFET N-CH 30V 4A SOT23; Manufacturer: Diodes; Rds On Max: 52mR; Input Capacitance: 464pF; Rise Time: 1.6ns; Max Power Dissipation: 1.4W; Fall Time: 2ns; Turn-Off Delay Time: 10.3ns; Turn-On Delay Time: 1.9ns; Gate to Source Voltage (Vgs): 12V; Number of Channels: 1; Polarity: N-CHANNEL; Supplier: Digi-Key; Supplier Part Number: DMG3402L-7DICT-ND; Manufacturer Part Number: DMG3402L-7; RoHS: Yes; Category: MOSFETs; Stock: 1011067; Pricing: 1=0,42, 10=0,298, 100=0,1503, 500=0,13316, 1000=0,10363 (USD); Mounting Technology: Surface Mount; Case/Package: SOT-23; Pins: 3; Weight: 0.000282oz; Min Operating Temperature: -55°C; Max Operating Temperature: 150°C; Package Quantity: 3000; Packaging: Tape and Reel; Drain to Source Voltage (Vdss): 30V; Continuous Drain Current (ID): 4A; Drain to Source Resistance: 52mR; Series: -; RoHS Compliant: Yes; Lead Free: Lead Free; ComponentLink1URL: http://www.mouser.com/ds/2/115/DMG3402L-473526.pdf?src-supplier=Mouser; ComponentLink1Description: http://www.mouser.com/ds/2/115/DMG3402L-473526.pdf?src-supplier=Mouser; ComponentLink2URL: http://diodes.com/datasheets/DMG3402L.pdf?src-supplier=Avnet; ComponentLink2Description: http://diodes.com/datasheets/DMG3402L.pdf?src-supplier=Avnet
footprint CDSOT23
pins: 1 G, 2 S, 3 D

## DRV8353FSRTAR
designator U?
102-V max 3-phase Functional Safety Quality-Managed smart gate driver with 3x CSA 40-WQFN -40 to 125; Manufacturer: Texas Instruments; Supplier: Digikey; Supplier Part Number: 296-DRV8353FSRTARCT-ND; Manufacturer Part Number: DRV8353FSRTAR; RoHS: No; Category: Integrated Circuits (ICs); Stock: 3540; Pricing: 1=6,2, 10=5,567, 25=5,2632, 100=4,5614, 250=4,32744, 500=3,883, 1000=3,27482 (USD)
footprint QFN50P600X600X80-41N
pins: 1 CPL, 2 CPH, 3 VM, 4 VDRAIN, 5 VCP, 6 GHA, 7 SHA, 8 GLA, 9 SPA, 10 SNA, 11 SNB, 12 SPB, 13 GLB, 14 SHB, 15 GHB, 16 GHC, 17 SHC, 18 GLC, 19 SPC, 20 SNC, 21 SOC, 22 SOB, 23 SOA, 24 VREF, 25 AGND, 26 ~{FAULT}, 27 MISO, 28 MOSI, 29 CLK, 30 CS, 31 ENABLE, 32 INHA, 33 INLA, 34 INHB, 35 INLB, 36 INHC, 37 INLC, 38 DVDD, 39 GND, 40 VGLS, 41 EXP

## EBWM2512F1L00S9
designator R?  value 1mOhm  Power Rating: 6W  Tolerance: %1  (hidden comment: EBWM2512F1L00S9)
1 mOhms ±1% 6W Chip Resistor 2512 (6432 Metric) Automotive AEC-Q200, Current Sense Metal Element
footprint RESC6330X90N
pins: 1, 2

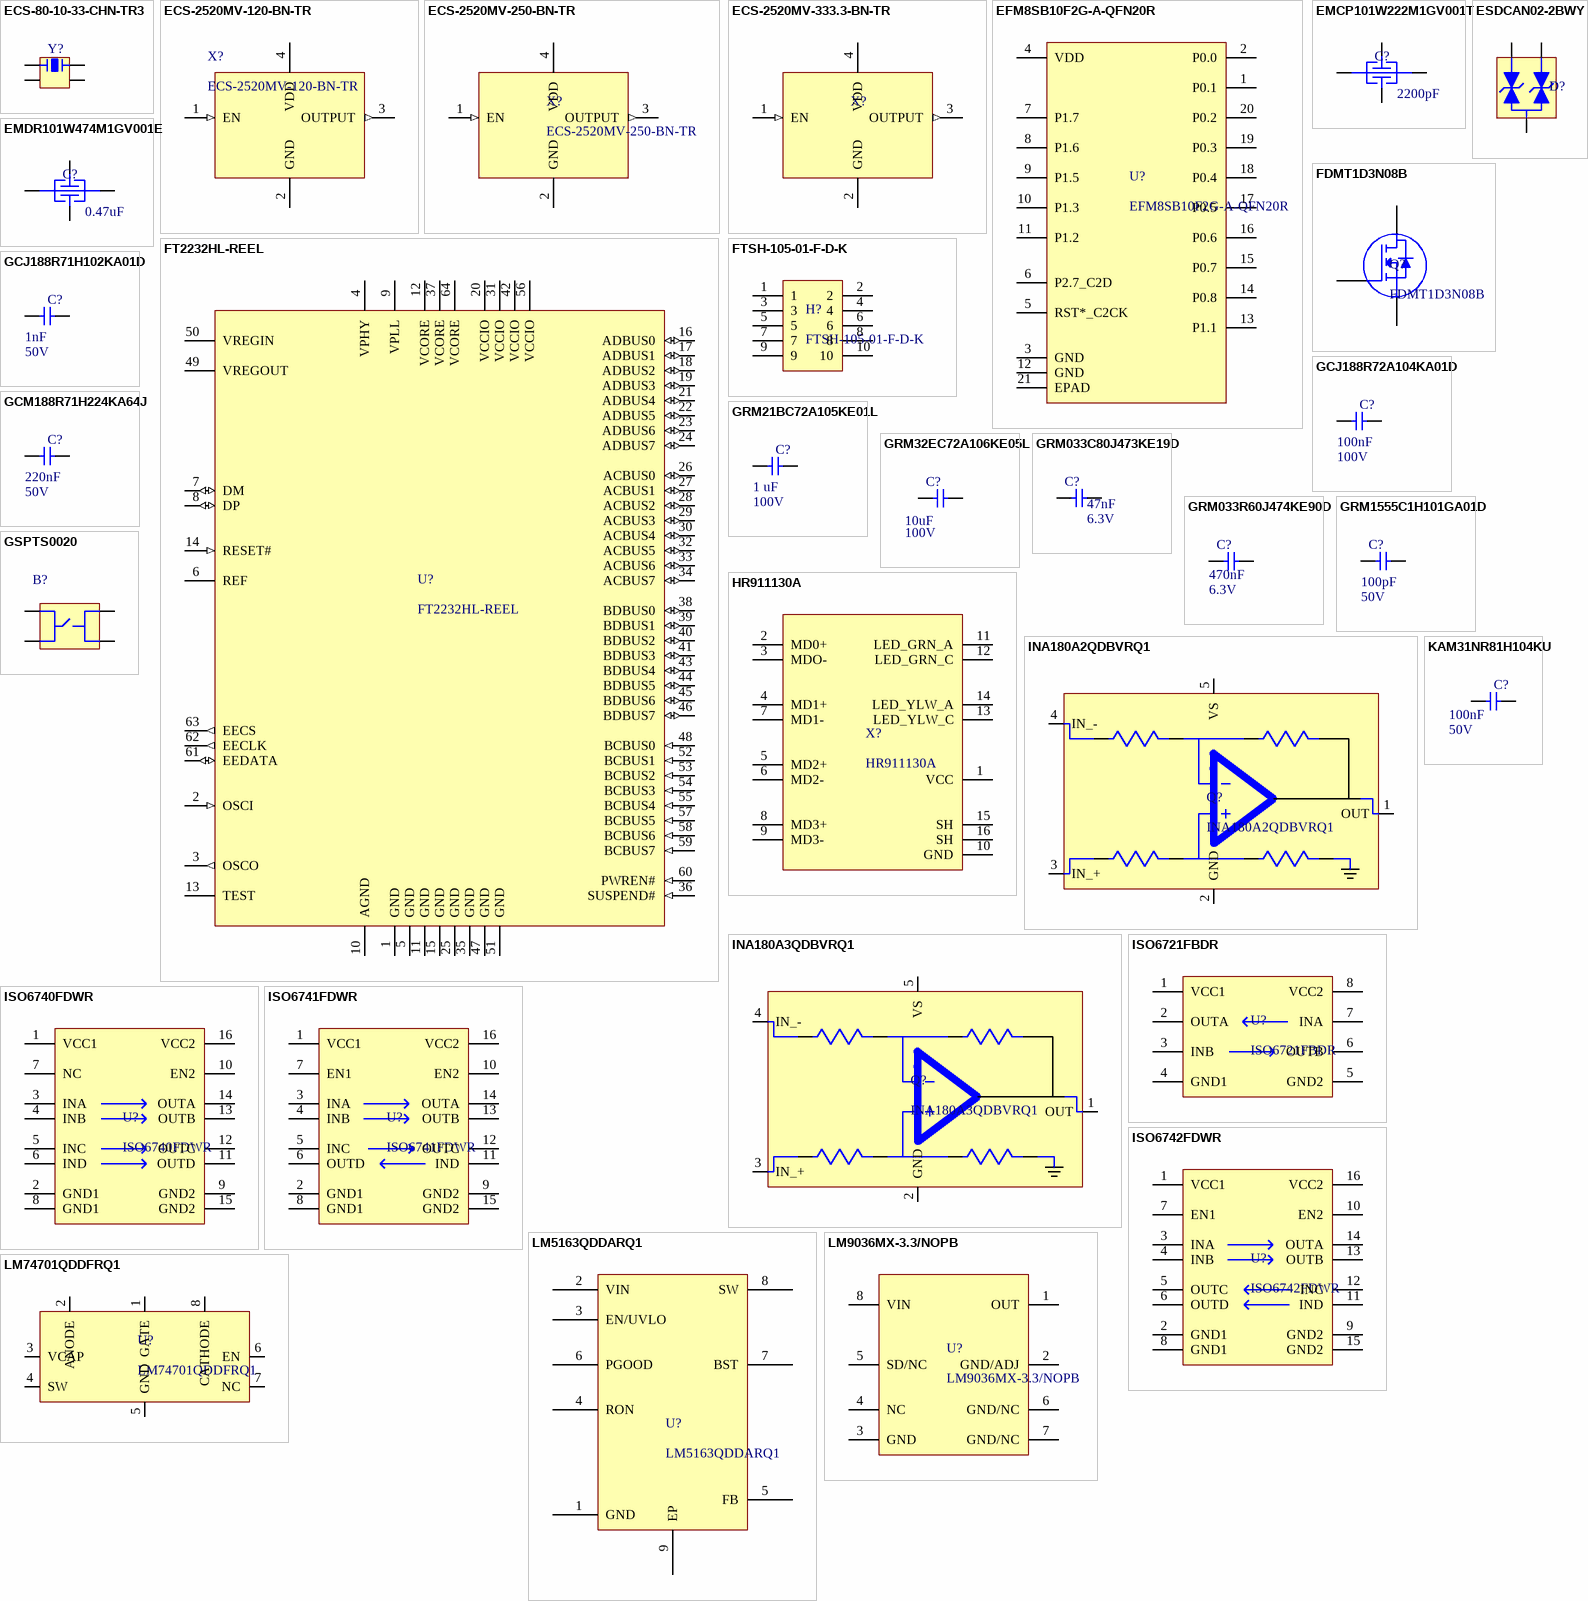
[diagram p2: symbols ECS-80-10-33-CHN-TR3 to LM74701QDDFRQ1]

## ECS-80-10-33-CHN-TR3
designator Y?  (value not drawn)
Crystal 8.0000MHZ 10PF SMD; Manufacturer: ECS International; Supplier: Digi-Key; Supplier Part Number: 50-ECS-80-10-33-CHN-TR3CT-ND; Manufacturer Part Number: ECS-80-10-33-CHN-TR3; RoHS: No; Stock: 3237; Pricing: 1=0,7, 10=0,581, 50=0,5226, 100=0,4646, 500=0,44136, 1000=0,37168 (USD); ComponentLink1URL: https://datasheet.octopart.com/ECS-80-10-33-CHN-TR3-ECS-International-datasheet-140089731.pdf?src-supplier=Master+Electronics; ComponentLink1Description: https://datasheet.octopart.com/ECS-80-10-33-CHN-TR3-ECS-International-datasheet-140089731.pdf?src-supplier=Master+Electronics
footprint XTAL_ECS-80-10-33-CHN-TR
pins: 1, 2 GND, 3, 4 GND

## ECS-2520MV-120-BN-TR
designator X?
Oscillator XO 12MHz ±50ppm 15pF HCMOS 55% 1.8V/2.5V/3.3V 4-Pin Mini-CSMD T/R; Manufacturer: ECS International; Body Material: Ceramic; Fall Time: 7ns; Max Supply Current: 6mA; Max Supply Voltage: 3.6V; Min Supply Voltage: 1.6V; Supplier: Arrow Electronics; Supplier Part Number: ECS-2520MV-120-BN-TR; Manufacturer Part Number: ECS-2520MV-120-BN-TR; RoHS: Compliant; Category: Crystals; Stock: 6000; Pricing: 3000=0,73, 6000=0,686 (USD); Frequency: 12MHz; Frequency Stability: 50ppm; Lifecycle Status: Production; Load Capacitance: 15pF; Max Operating Temperature: 85°C; Min Operating Temperature: -40°C; Mounting Technology: Surface Mount; Number of Terminals: 4; REACH SVHC: Yes; Rise Time: 7ns; Schedule B: 8542310000, 8542310000|8542310000|8542310000|8542310000|8542310000|8542310000|8542310000|8542310000|8542310000|8542310000|8542310000|8542310000|8542310000|8542310000|8542310000|8542310000|8542310000|8542310000|8542310000|8542310000|8542310000|8542310000|8542310000|85, 8542390000; ComponentLink1URL: https://datasheet.octopart.com:443/ECS-2520MV-120-BN-TR-ECS-International-datasheet-179230857.pdf?src-supplier=IHS; ComponentLink1Description: https://datasheet.octopart.com:443/ECS-2520MV-120-BN-TR-ECS-International-datasheet-179230857.pdf?src-supplier=IHS; ComponentLink2URL: https://datasheet.octopart.com:443/ECS-2520MV-120-BN-TR-ECS-International-datasheet-104167383.pdf?src-supplier=Master+Electronics; ComponentLink2Description: https://datasheet.octopart.com:443/ECS-2520MV-120-BN-TR-ECS-International-datasheet-104167383.pdf?src-supplier=Master+Electronics; ComponentLink3URL: https://datasheet.octopart.com:443/ECS-2520MV-120-BN-TR-ECS-International-datasheet-189099886.pdf?src-supplier=Master+Electronics; ComponentLink3Description: https://datasheet.octopart.com:443/ECS-2520MV-120-BN-TR-ECS-International-datasheet-189099886.pdf?src-supplier=Master+Electronics
footprint OSCCC250X200X90N
pins: 1 EN (in), 2 GND (power), 3 OUTPUT (out), 4 VDD (power)

## ECS-2520MV-250-BN-TR
designator X?
ECS-2520 Series 25 MHz 1.6 to 3.6 V ±50 ppm-40°C to 85°C SMT Crystal Oscillator; Manufacturer: ECS International; Body Material: Ceramic; Fall Time: 7ns; Frequency: 25MHz; Frequency Stability: 50ppm; Load Capacitance: 15pF; Max Supply Current: 7mA; Max Supply Voltage: 3.6V; Min Supply Voltage: 1.6V; Supplier: Future Electronics; Supplier Part Number: ECS-2520MV-250-BN-TR; Manufacturer Part Number: ECS-2520MV-250-BN-TR; RoHS: Compliant; Category: Crystals; Stock: 21000; Pricing: 3000=0,61 (USD); Introduction Date: 2018-03-21; Lifecycle Status: Production; Max Operating Temperature: 85°C; Min Operating Temperature: -40°C; Mounting Technology: Surface Mount; Number of Terminals: 4; REACH SVHC: Yes; Rise Time: 7ns; Schedule B: 8542310000, 8542310000|8542310000|8542310000|8542310000|8542310000|8542310000|8542310000|8542310000|8542310000|8542310000|8542310000|8542310000|8542310000|8542310000|8542310000|8542310000|8542310000|8542310000|8542310000|8542310000|8542310000|8542310000|8542310000|85, 8542390000; ComponentLink1URL: https://datasheet.octopart.com:443/ECS-2520MV-250-BN-TR-ECS-International-datasheet-179230857.pdf?src-supplier=IHS; ComponentLink1Description: https://datasheet.octopart.com:443/ECS-2520MV-250-BN-TR-ECS-International-datasheet-179230857.pdf?src-supplier=IHS; ComponentLink2URL: https://datasheet.octopart.com:443/ECS-2520MV-250-BN-TR-ECS-International-datasheet-104167383.pdf?src-supplier=Master+Electronics; ComponentLink2Description: https://datasheet.octopart.com:443/ECS-2520MV-250-BN-TR-ECS-International-datasheet-104167383.pdf?src-supplier=Master+Electronics; ComponentLink3URL: https://datasheet.octopart.com:443/ECS-2520MV-250-BN-TR-ECS-International-datasheet-189099886.pdf?src-supplier=Master+Electronics; ComponentLink3Description: https://datasheet.octopart.com:443/ECS-2520MV-250-BN-TR-ECS-International-datasheet-189099886.pdf?src-supplier=Master+Electronics; ComponentLink4URL: https://datasheet.octopart.com:443/ECS-2520MV-250-BN-TR-ECS-International-datasheet-138123782.pdf?src-supplier=Future+Electronics; ComponentLink4Description: https://datasheet.octopart.com:443/ECS-2520MV-250-BN-TR-ECS-International-datasheet-138123782.pdf?src-supplier=Future+Electronics
footprint OSCCC250X200X90N
pins: 1 EN (in), 2 GND (power), 3 OUTPUT (out), 4 VDD (power)